# EAGLE library part RJ45_DUAL-USB (library F030NG)
RJ45/Dual USB Combo
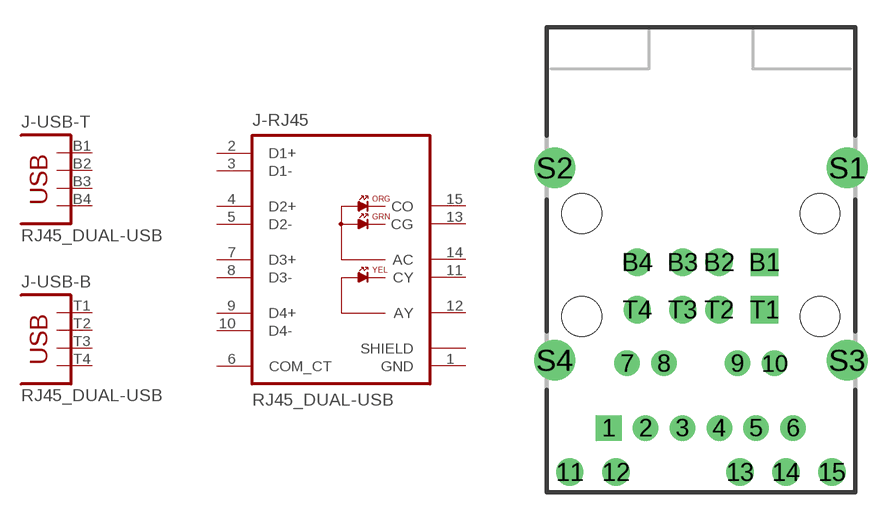
[diagram p47: symbol with the pads of JY0-0016; footprint JY0-0016]

Designator prefix J; gates -RJ45=0862-1J1T-43-F -USB-T=USB-4 -USB-B=USB-4

## RJ45_DUAL-USB  [JY0-0016]
1  -RJ45:GND  pas
2  -RJ45:D1+  pas
3  -RJ45:D1-  pas
4  -RJ45:D2+  pas
5  -RJ45:D2-  pas
6  -RJ45:COM_CT  pas
7  -RJ45:D3+  pas
8  -RJ45:D3-  pas
9  -RJ45:D4+  pas
10  -RJ45:D4-  pas
11  -RJ45:CY  pas
12  -RJ45:AY  pas
13  -RJ45:CG  pas
14  -RJ45:AC  pas
15  -RJ45:CO  pas
B1  -USB-T:1  pas
B2  -USB-T:2  pas
B3  -USB-T:3  pas
B4  -USB-T:4  pas
S1  -RJ45:SHIELD
S2  -RJ45:SHIELD
S3  -RJ45:SHIELD
S4  -RJ45:SHIELD
T1  -USB-B:1  pas
T2  -USB-B:2  pas
T3  -USB-B:3  pas
T4  -USB-B:4  pas

## Footprint JY0-0016 (pad centres in mm)
RJ45/Dual USB Combo
drill 0.9 pad 1.27 square: 1 -5.08,-14.351
drill 0.9 pad 1.27: 2 -3.048,-14.351; 3 -1.016,-14.351; 4 1.016,-14.351; 5 3.048,-14.351; 6 5.08,-14.351; 7 -4.07,-10.79; 8 -2.03,-10.79; 9 2.03,-10.79; 10 4.07,-10.79
drill 1 pad 1.422: 11 -7.226,-16.789; 12 -4.686,-16.789; 13 2.16,-16.789; 14 4.686,-16.789; 15 7.226,-16.789
drill 1 pad 1.27 square: B1 3.505,-5.207; T1 3.505,-7.823
drill 1 pad 1.27: B2 1.003,-5.207; B3 -1.003,-5.207; B4 -3.505,-5.207; T2 1.003,-7.823; T3 -1.003,-7.823; T4 -3.505,-7.823
drill 1.5 pad 2.15: S1 8.065,0; S2 -8.065,0; S3 8.065,-10.617; S4 -8.065,-10.617
hole 2.2 at -6.566,-2.515
hole 2.2 at 6.566,-2.515
hole 2.2 at 6.566,-8.204
hole 2.2 at -6.566,-8.204